# EAGLE library part GE863-PRO3 (library telit-modules)
Telit GE863-PRO3 (> 06.2008)
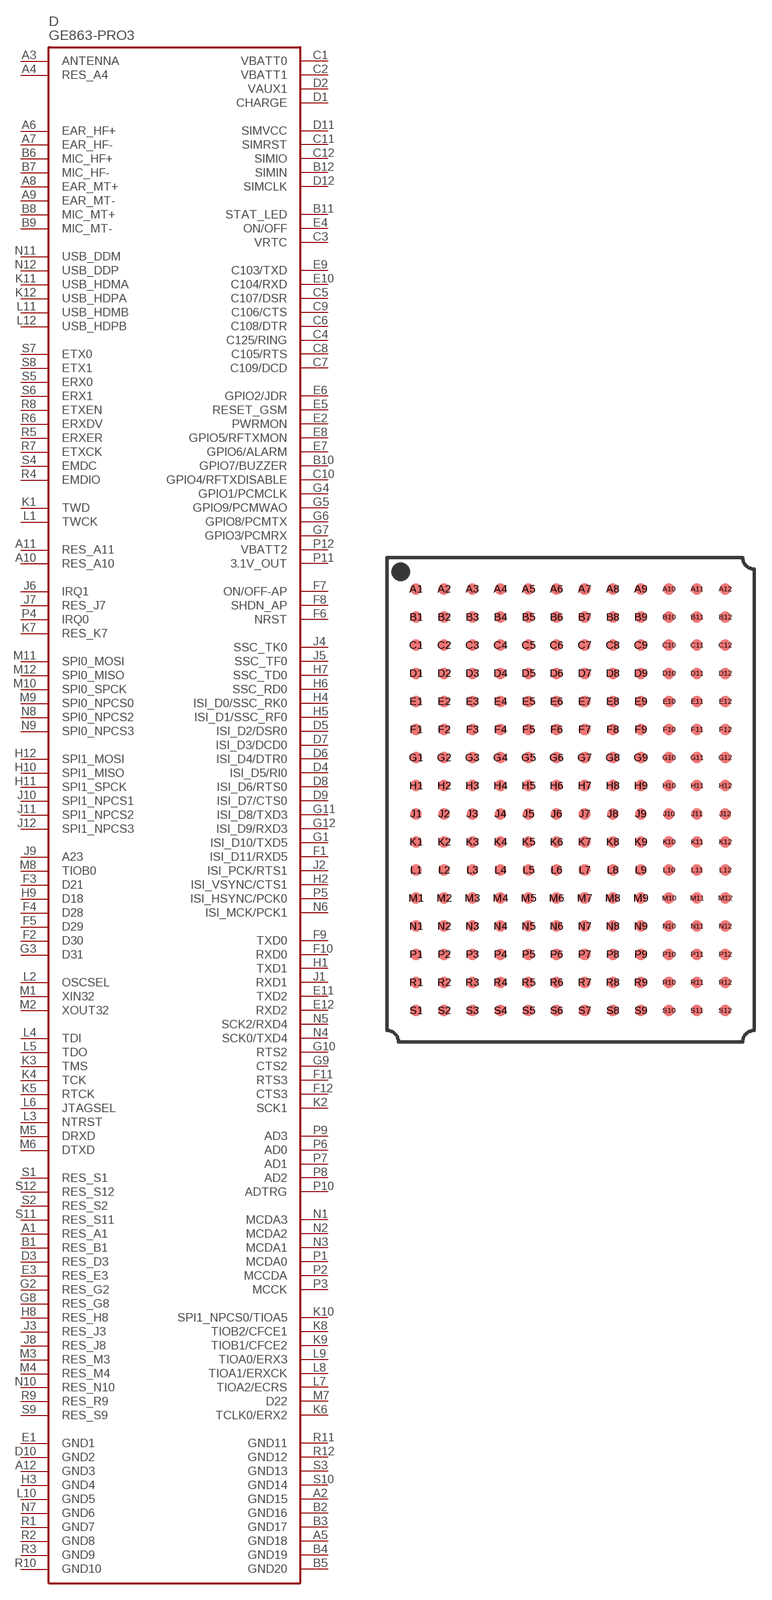
[diagram p2: symbol with the pads of GE863-PRO; footprint GE863-PRO]

Designator prefix D

## GE863-PRO3  [GE863-PRO]
A1  RES_A1  pas
A2  GND15  pwr
A3  ANTENNA  pas
A4  RES_A4  pas
A5  GND18  pwr
A6  EAR_HF+  pas
A7  EAR_HF-  pas
A8  EAR_MT+  pas
A9  EAR_MT-  pas
A10  RES_A10  pas
A11  RES_A11  pas
A12  GND3  pwr
B1  RES_B1  pas
B2  GND16  pwr
B3  GND17  pwr
B4  GND19  pwr
B5  GND20  pwr
B6  MIC_HF+  pas
B7  MIC_HF-  pas
B8  MIC_MT+  pas
B9  MIC_MT-  pas
B10  GPIO7/BUZZER
B11  STAT_LED  out
B12  SIMIN  in
C1  VBATT0  pwr
C2  VBATT1  pwr
C3  VRTC  pas
C4  C125/RING  out
C5  C107/DSR  out
C6  C108/DTR  in
C7  C109/DCD  out
C8  C105/RTS  in
C9  C106/CTS  out
C10  GPIO4/RFTXDISABLE
C11  SIMRST  out
C12  SIMIO
D1  CHARGE  pwr
D2  VAUX1  pas
D3  RES_D3  pas
D4  ISI_D5/RI0  pas
D5  ISI_D2/DSR0  pas
D6  ISI_D4/DTR0  pas
D7  ISI_D3/DCD0  pas
D8  ISI_D6/RTS0  pas
D9  ISI_D7/CTS0  pas
D10  GND2  pwr
D11  SIMVCC  pas
D12  SIMCLK  out
E1  GND1  pwr
E2  PWRMON
E3  RES_E3  pas
E4  ON/OFF  in
E5  RESET_GSM  in
E6  GPIO2/JDR
E7  GPIO6/ALARM
E8  GPIO5/RFTXMON
E9  C103/TXD  in
E10  C104/RXD  out
E11  TXD2  pas
E12  RXD2  pas
F1  ISI_D11/RXD5  pas
F2  D30  pas
F3  D21  pas
F4  D28  pas
F5  D29  pas
F6  NRST  pas
F7  ON/OFF-AP  pas
F8  SHDN_AP  pas
F9  TXD0  pas
F10  RXD0  pas
F11  RTS3  pas
F12  CTS3  pas
G1  ISI_D10/TXD5  pas
G2  RES_G2  pas
G3  D31  pas
G4  GPIO1/PCMCLK
G5  GPIO9/PCMWAO
G6  GPIO8/PCMTX
G7  GPIO3/PCMRX
G8  RES_G8  pas
G9  CTS2  pas
G10  RTS2  pas
G11  ISI_D8/TXD3  pas
G12  ISI_D9/RXD3  pas
H1  TXD1  pas
H2  ISI_VSYNC/CTS1  pas
H3  GND4  pwr
H4  ISI_D0/SSC_RK0  pas
H5  ISI_D1/SSC_RF0  pas
H6  SSC_RD0  pas
H7  SSC_TD0  pas
H8  RES_H8  pas
H9  D18  pas
H10  SPI1_MISO  pas
H11  SPI1_SPCK  pas
H12  SPI1_MOSI  pas
J1  RXD1  pas
J2  ISI_PCK/RTS1  pas
J3  RES_J3  pas
J4  SSC_TK0  pas
J5  SSC_TF0  pas
J6  IRQ1  pas
J7  RES_J7  pas
J8  RES_J8  pas
J9  A23  pas
J10  SPI1_NPCS1  pas
J11  SPI1_NPCS2  pas
J12  SPI1_NPCS3  pas
K1  TWD  pas
K2  SCK1  pas
K3  TMS  pas
K4  TCK  pas
K5  RTCK  pas
K6  TCLK0/ERX2  pas
K7  RES_K7  pas
K8  TIOB2/CFCE1  pas
K9  TIOB1/CFCE2  pas
K10  SPI1_NPCS0/TIOA5  pas
K11  USB_HDMA  pas
K12  USB_HDPA  pas
L1  TWCK  pas
L2  OSCSEL  pas
L3  NTRST  pas
L4  TDI  pas
L5  TDO  pas
L6  JTAGSEL  pas
L7  TIOA2/ECRS  pas
L8  TIOA1/ERXCK  pas
L9  TIOA0/ERX3  pas
L10  GND5  pwr
L11  USB_HDMB  pas
L12  USB_HDPB  pas
M1  XIN32  pas
M2  XOUT32  pas
M3  RES_M3  pas
M4  RES_M4  pas
M5  DRXD  pas
M6  DTXD  pas
M7  D22  pas
M8  TIOB0  pas
M9  SPI0_NPCS0  pas
M10  SPI0_SPCK  pas
M11  SPI0_MOSI  pas
M12  SPI0_MISO  pas
N1  MCDA3  pas
N2  MCDA2  pas
N3  MCDA1  pas
N4  SCK0/TXD4  pas
N5  SCK2/RXD4  pas
N6  ISI_MCK/PCK1  pas
N7  GND6  pwr
N8  SPI0_NPCS2  pas
N9  SPI0_NPCS3  pas
N10  RES_N10  pas
N11  USB_DDM  pas
N12  USB_DDP  pas
P1  MCDA0  pas
P2  MCCDA  pas
P3  MCCK  pas
P4  IRQ0  pas
P5  ISI_HSYNC/PCK0  pas
P6  AD0  in
P7  AD1  in
P8  AD2  in
P9  AD3  in
P10  ADTRG  in
P11  3.1V_OUT  pwr
P12  VBATT2  pwr
R1  GND7  pwr
R2  GND8  pwr
R3  GND9  pwr
R4  EMDIO  pas
R5  ERXER  pas
R6  ERXDV  pas
R7  ETXCK  pas
R8  ETXEN  pas
R9  RES_R9  pas
R10  GND10  pwr
R11  GND11  pwr
R12  GND12  pwr
S1  RES_S1  pas
S2  RES_S2  pas
S3  GND13  pwr
S4  EMDC  pas
S5  ERX0  pas
S6  ERX1  pas
S7  ETX0  pas
S8  ETX1  pas
S9  RES_S9  pas
S10  GND14  pwr
S11  RES_S11  pas
S12  RES_S12  pas

## Footprint GE863-PRO (pad centres in mm)
smd 1 x 1: A1 -13.2,18; A2 -10.8,18; A3 -8.4,18; A4 -6,18; A5 -3.6,18; A6 -1.2,18; A7 1.2,18; A8 3.6,18; A9 6,18; A10 8.4,18; A11 10.8,18; A12 13.2,18; B1 -13.2,15.6; B2 -10.8,15.6; B3 -8.4,15.6; B4 -6,15.6; B5 -3.6,15.6; B6 -1.2,15.6; B7 1.2,15.6; B8 3.6,15.6; B9 6,15.6; B10 8.4,15.6; B11 10.8,15.6; B12 13.2,15.6; C1 -13.2,13.2; C2 -10.8,13.2; C3 -8.4,13.2; C4 -6,13.2; C5 -3.6,13.2; C6 -1.2,13.2; C7 1.2,13.2; C8 3.6,13.2; C9 6,13.2; C10 8.4,13.2; C11 10.8,13.2; C12 13.2,13.2; D1 -13.2,10.8; D2 -10.8,10.8; D3 -8.4,10.8; D4 -6,10.8; D5 -3.6,10.8; D6 -1.2,10.8; D7 1.2,10.8; D8 3.6,10.8; D9 6,10.8; D10 8.4,10.8; D11 10.8,10.8; D12 13.2,10.8; E1 -13.2,8.4; E2 -10.8,8.4; E3 -8.4,8.4; E4 -6,8.4; E5 -3.6,8.4; E6 -1.2,8.4; E7 1.2,8.4; E8 3.6,8.4; E9 6,8.4; E10 8.4,8.4; E11 10.8,8.4; E12 13.2,8.4; F1 -13.2,6; F2 -10.8,6; F3 -8.4,6; F4 -6,6; F5 -3.6,6; F6 -1.2,6; F7 1.2,6; F8 3.6,6; F9 6,6; F10 8.4,6; F11 10.8,6; F12 13.2,6; G1 -13.2,3.6; G2 -10.8,3.6; G3 -8.4,3.6; G4 -6,3.6; G5 -3.6,3.6; G6 -1.2,3.6; G7 1.2,3.6; G8 3.6,3.6; G9 6,3.6; G10 8.4,3.6; G11 10.8,3.6; G12 13.2,3.6; H1 -13.2,1.2; H2 -10.8,1.2; H3 -8.4,1.2; H4 -6,1.2; H5 -3.6,1.2; H6 -1.2,1.2; H7 1.2,1.2; H8 3.6,1.2; H9 6,1.2; H10 8.4,1.2; H11 10.8,1.2; H12 13.2,1.2; J1 -13.2,-1.2; J2 -10.8,-1.2; J3 -8.4,-1.2; J4 -6,-1.2; J5 -3.6,-1.2; J6 -1.2,-1.2; J7 1.2,-1.2; J8 3.6,-1.2; J9 6,-1.2; J10 8.4,-1.2; J11 10.8,-1.2; J12 13.2,-1.2; K1 -13.2,-3.6; K2 -10.8,-3.6; K3 -8.4,-3.6; K4 -6,-3.6; K5 -3.6,-3.6; K6 -1.2,-3.6; K7 1.2,-3.6; K8 3.6,-3.6; K9 6,-3.6; K10 8.4,-3.6; K11 10.8,-3.6; K12 13.2,-3.6; L1 -13.2,-6; L2 -10.8,-6; L3 -8.4,-6; L4 -6,-6; L5 -3.6,-6; L6 -1.2,-6; L7 1.2,-6; L8 3.6,-6; L9 6,-6; L10 8.4,-6; L11 10.8,-6; L12 13.2,-6; M1 -13.2,-8.4; M2 -10.8,-8.4; M3 -8.4,-8.4; M4 -6,-8.4; M5 -3.6,-8.4; M6 -1.2,-8.4; M7 1.2,-8.4; M8 3.6,-8.4; M9 6,-8.4; M10 8.4,-8.4; M11 10.8,-8.4; M12 13.2,-8.4; N1 -13.2,-10.8; N2 -10.8,-10.8; N3 -8.4,-10.8; N4 -6,-10.8; N5 -3.6,-10.8; N6 -1.2,-10.8; N7 1.2,-10.8; N8 3.6,-10.8; N9 6,-10.8; N10 8.4,-10.8; N11 10.8,-10.8; N12 13.2,-10.8; P1 -13.2,-13.2; P2 -10.8,-13.2; P3 -8.4,-13.2; P4 -6,-13.2; P5 -3.6,-13.2; P6 -1.2,-13.2; P7 1.2,-13.2; P8 3.6,-13.2; P9 6,-13.2; P10 8.4,-13.2; P11 10.8,-13.2; P12 13.2,-13.2; R1 -13.2,-15.6; R2 -10.8,-15.6; R3 -8.4,-15.6; R4 -6,-15.6; R5 -3.6,-15.6; R6 -1.2,-15.6; R7 1.2,-15.6; R8 3.6,-15.6; R9 6,-15.6; R10 8.4,-15.6; R11 10.8,-15.6; R12 13.2,-15.6; S1 -13.2,-18; S2 -10.8,-18; S3 -8.4,-18; S4 -6,-18; S5 -3.6,-18; S6 -1.2,-18; S7 1.2,-18; S8 3.6,-18; S9 6,-18; S10 8.4,-18; S11 10.8,-18; S12 13.2,-18